# EAGLE library part LTC4416* (library linear-technology-3)
Low Loss Dual PowerPath Controllers
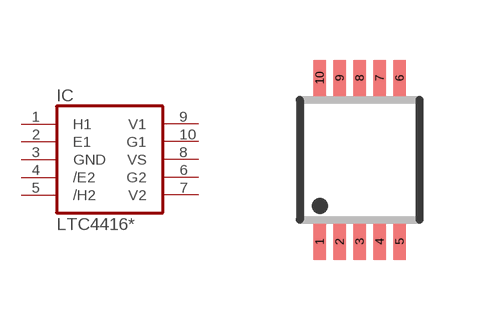
[diagram p45: symbol with the pads of MSOP10; footprint MSOP10]

Designator prefix IC

## LTC4416EMS, LTC4416IMS  [MSOP10]
1  H1  oc
2  E1  in
3  GND  pwr
4  /E2  in
5  /H2  oc
6  G2  out
7  V2  in
8  VS  in
9  V1  in
10  G1  out

## Footprint MSOP10 (pad centres in mm)
smd 0.31 x 0.9: 1 -1,-2.05; 2 -0.5,-2.05; 3 0,-2.05; 4 0.5,-2.05; 5 1,-2.05; 6 1,2.05; 7 0.5,2.05; 8 0,2.05; 9 -0.5,2.05; 10 -1,2.05